# EAGLE library part 691318500008 (library Wuerth_Elektronik_eiCan_Terminal_Blocks_v2.0)
WR-TBL Serie 3185 - 5.08 mm Close Vertical PCB Header with Flanges , 8 Pins
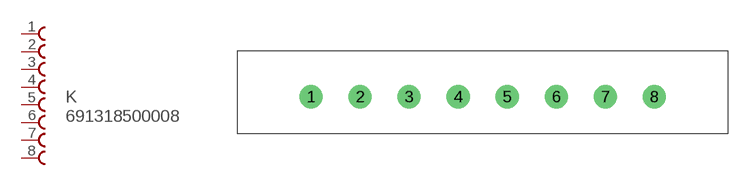
[diagram p110: symbol with the pads of 691318500008; footprint 691318500008]

Designator prefix K

## 691318500008  [691318500008]
1  1  pas
2  2  pas
3  3  pas
4  4  pas
5  5  pas
6  6  pas
7  7  pas
8  8  pas

## Footprint 691318500008 (pad centres in mm)
WR-TBL Serie 3185 - 5.08 mm Close Vertical PCB Header with Flanges , 8 Pins
drill 1.6 round: 1 -10.16,0; 2 -5.08,0; 3 0,0; 4 5.08,0; 5 10.16,0; 6 15.24,0; 7 20.32,0; 8 25.4,0